# Altium footprint library MISC_Library.PcbLib: 19 footprints (part 2 of 2)
Each footprint in its own frame and in the unit in brackets; x right, y up, seen from the top. Pads: shape width x height; smd on the part's side, far side on the other; paste and mask are expansions set on the pad; w line width, h text height; cw(c..) or ccw(c..) is an arc to the next point about the centre after c.
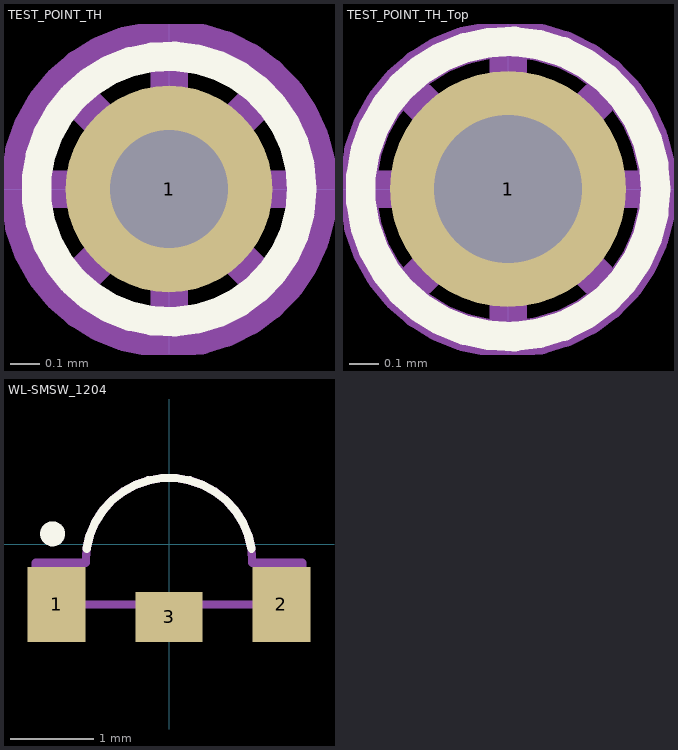
[diagram p1: the footprints below, top view; thin cyan lines are the x and y axes]

## TEST_POINT_TH [mm]
pads (1):
  round 0.7 hole 0.4 mask+0.05: 1(0,0)
Top Overlay:
  circle w0.1: c0,0 r0.45
Bottom Overlay:
  circle w0.1: c0,0 r0.45
Top Designator:
  circle w0.127: c0,0 r0.508
  lines w0.127: -0.508,0 0,0 ; -0.3,-0.3 0,0 ; -0.3,0.3 0,0 ; 0,-0.508 0,0 ; 0,0.508 0,0 ; 0.3,-0.3 0,0 ; 0.3,0.3 0,0 ; 0.508,0 0,0

## TEST_POINT_TH_Top [mm]
pads (1):
  round 0.8 hole 0.5 mask+0.05: 1(0,0)
Top Overlay:
  circle w0.1: c0,0 r0.5
Bottom Overlay:
  circle w0.1: c0,0 r0.5
Top Designator:
  circle w0.127: c0,0 r0.508
  lines w0.127: -0.508,0 0,0 ; -0.3,-0.3 0,0 ; -0.3,0.3 0,0 ; 0,-0.508 0,0 ; 0,0.508 0,0 ; 0.3,-0.3 0,0 ; 0.3,0.3 0,0 ; 0.508,0 0,0

## WL-SMSW_1204 [mm] "SMD Mono-color Side view Waterclear, body 3.2x1.5mm"
height 1
pads (3):
  rect 0.7x0.9 smd: 1(-1.35,-0.72) 2(1.35,-0.72)
  rect 0.8x0.6 smd: 3(0,-0.87)
Top Overlay:
  circle w0.15: c-1.397,0.127 r0.075
  lines w0.1: -0.989,-0.052 cw(c0,-0.2) 0.989,-0.052
Top Designator:
  rectangle: -1.6,-0.72 -1.25,-0.22
  lines w0.1: 1,-0.22 ccw(c0,-0.2) -1,-0.22 -1.6,-0.22 -1.6,-0.72 1.6,-0.72 1.6,-0.22 1,-0.22
  text ".Designator" at -2.539,-0.169 h0.51
3D body "WL-SMSW_124_round.stp": height 1, standoff 0, extent -1.6,-0.72 1.6,0.765